# EAGLE library part ADAFRUIT,OLED,BREAKOUT-96X128 (library 0_MyTempLIB)
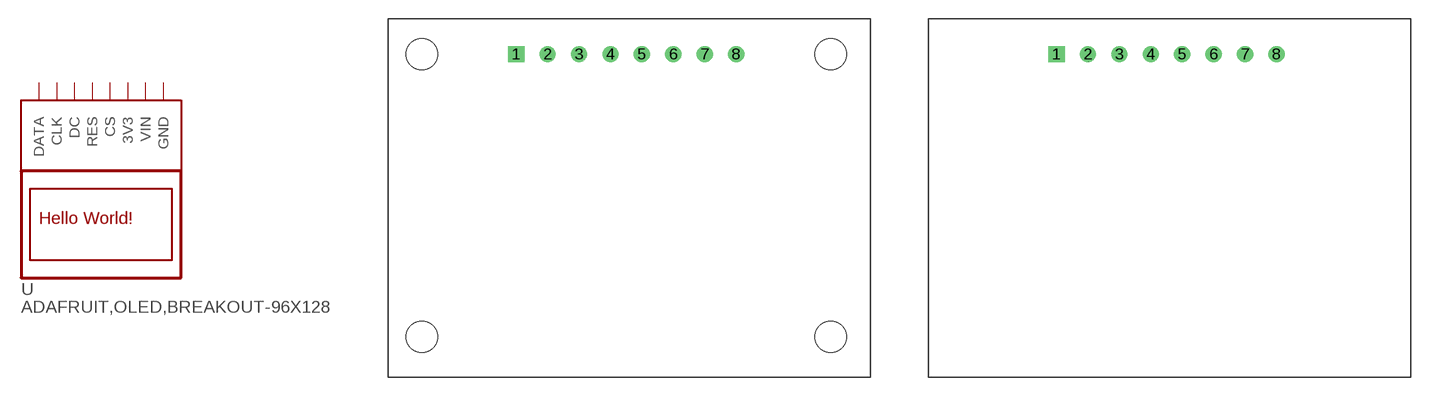
[diagram p19: symbol with the pads of ADAFRUIT,OLED,BREAKOUT-96X128-W/HOLES; footprints ADAFRUIT,OLED,BREAKOUT-96X128-W/HOLES, ADAFRUIT,OLED,BREAKOUT-96X128-NO-HOLES]

Designator prefix U

## ADAFRUIT,OLED,BREAKOUT-96X128W/HOLES  [ADAFRUIT,OLED,BREAKOUT-96X128-W/HOLES]
1  DATA  pas
2  CLK  pas
3  DC  pas
4  RES  pas
5  CS  pas
6  3V3  pwr
7  VIN  pwr
8  GND  pwr

## ADAFRUIT,OLED,BREAKOUT-96X128NO-HOLES  [ADAFRUIT,OLED,BREAKOUT-96X128-NO-HOLES]
Pads as for ADAFRUIT,OLED,BREAKOUT-96X128-W/HOLES

## Footprint ADAFRUIT,OLED,BREAKOUT-96X128-W/HOLES (pad centres in mm)
drill 0.813 square: 1 0,0
drill 0.813: 2 2.54,0; 3 5.08,0; 4 7.62,0; 5 10.16,0; 6 12.7,0; 7 15.24,0; 8 17.78,0
hole 2.54 at -7.62,0
hole 2.54 at 25.4,0
hole 2.54 at 25.4,-22.86
hole 2.54 at -7.62,-22.86

## Footprint ADAFRUIT,OLED,BREAKOUT-96X128-NO-HOLES (pad centres in mm)
drill 0.813 square: 1 0,0
drill 0.813: 2 2.54,0; 3 5.08,0; 4 7.62,0; 5 10.16,0; 6 12.7,0; 7 15.24,0; 8 17.78,0